# Altium schematic symbol library NH Speaker Sensor 16CH 2.3_C.SCHLIB: 91 symbols
Pins are listed as number, name and electrical type; pins without a type are passive.

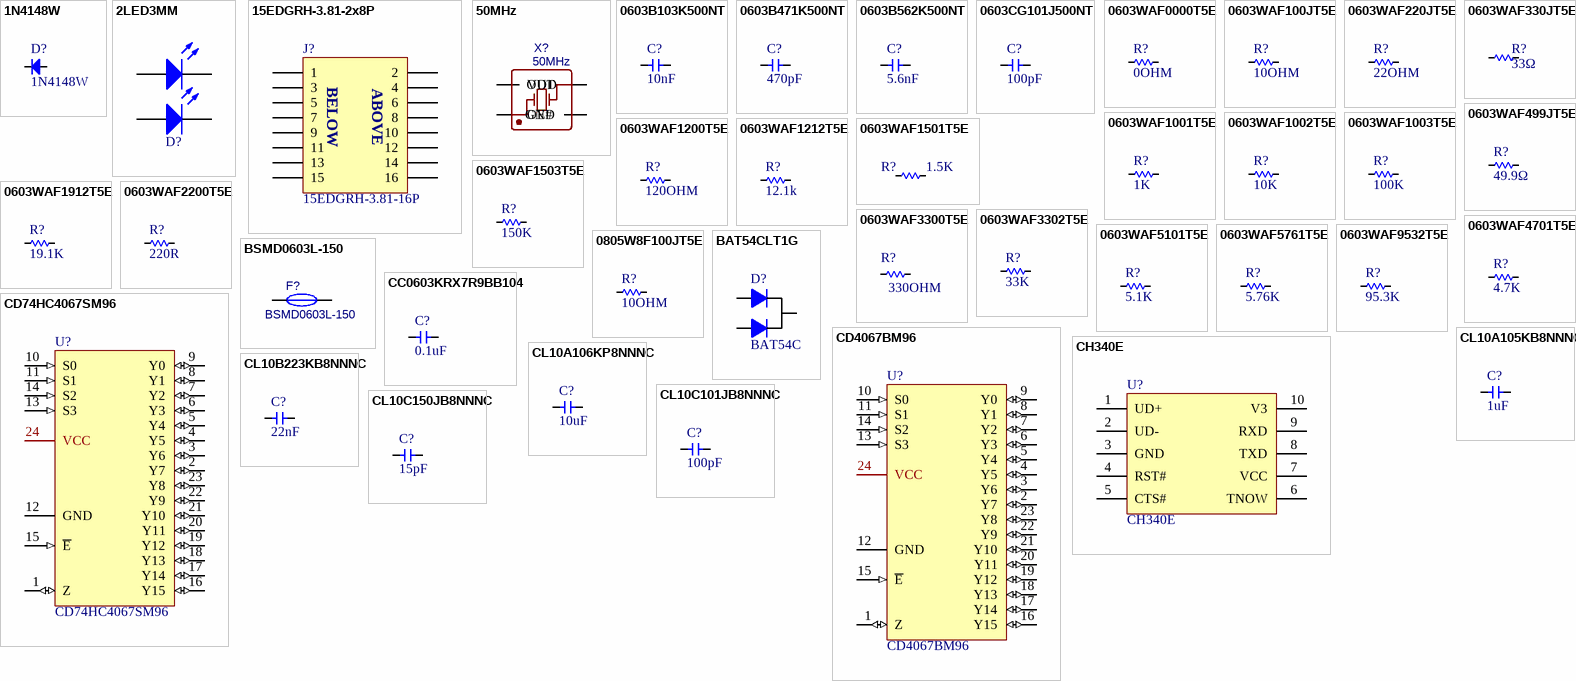
[diagram p0: symbols 1N4148W to CL10C150JB8NNNC]

## 1N4148W
designator D?
SCHOTTKY BARRIER DIODES (SBD) SOD-123 ROHS; Manufacturer: ST(Semtech); Manufacturer Part Number: 1N4148W; LCSC Part Number: C81598; Package: SOD-323; Assembly Type: SMT Assembly
footprint SOD-123F_L2.7-W1.6-LS3.8-RD
pins: 1 K, 2 A

## 2LED3MM
designator D?, comment 2LED_3MM  (value not drawn)
Typical RED GaAs LED; Manufacturer Part Number: 2 Led 3mm; Manufacturer: N/A; LCSC Part Number: N/A; Package: Through hole; Assembly Type: Hand Soldering
footprint 2LED_3MM
pins: 1 A, 2 K, 3 A, 4 K

## 15EDGRH-3.81-2x8P
designator J?, comment 15EDGRH-3.81-16P
16 Position Terminal Block Header, Male Pins, Shrouded (16 Side) 0.150" (3.81mm) 90°, Right Angle  Through Hole; Manufacturer: Phoenix Contact; Manufacturer Part Number: 1843130; Package: Through Hole; ComponentLink1URL: https://datasheet.ciiva.com/15197/getdatasheetpartid-704204-15197555.pdf?src-supplier=Verical; ComponentLink1Description: https://datasheet.ciiva.com/15197/getdatasheetpartid-704204-15197555.pdf?src-supplier=Verical; ComponentLink2URL: https://datasheet.ciiva.com/6762/1843088-6762520.pdf?src-supplier=Digi-Key; ComponentLink2Description: https://datasheet.ciiva.com/6762/1843088-6762520.pdf?src-supplier=Digi-Key; ComponentLink3URL: https://datasheet.ciiva.com/16097/1843088-16097099.pdf?src-supplier=Onlinecomponents.com; ComponentLink3Description: https://datasheet.ciiva.com/16097/1843088-16097099.pdf?src-supplier=Onlinecomponents.com; ComponentLink4URL: https://datasheet.ciiva.com/26339/772185-da-01-de-grundgehaeuse-1843088-50-st-26339092.pdf?src-supplier=Conrad; ComponentLink4Description: https://datasheet.ciiva.com/26339/772185-da-01-de-grundgehaeuse-1843088-50-st-26339092.pdf?src-supplier=Conrad; LCSC Part Number: N/A; Assembly Type: Hand Soldering
footprint Header 3.81 8 pin dual row
pins: 1, 2, 3, 4, 5, 6, 7, 8, 9, 10, 11, 12, 13, 14, 15, 16
text: BELOW; ABOVE

## 50MHz
designator X?
Manufacturer: HELE(台湾加高); Manufacturer Part: HSO321S 50MHZ 3.3V 50PPM -40~+85℃; nameAlias: Value; Contributor: LCSC; Supplier: LCSC; Supplier Part: C160451; JLCPCB Part Class: Extended Part; spicePre: X; spiceSymbolName: HSO321S 50MHZ 3.3V
footprint OSC-SMD_4P-L3.2-W2.5-BL
pins: 1 OE#, 2 GND, 3 OUT, 4 VDD

## 0603B103K500NT
designator C?, comment 10nF
10NF 50V 0603 ROHS; Manufacturer: FH(Guangdong Fenghua Advanced Tech); Manufacturer Part Number: 0603B103K500NT; Package: 0603; LCSC Part Number: C57112; ComponentLink1Description: Digikey Link; ComponentLink2Description: LCSC Link; Assembly Type: SMT Assembly
footprint C_0603
pins: 1, 2

## 0603B471K500NT
designator C?, comment 470pF
470pF 50V 0603 Multilayer Ceramic Capacitors MLCC - SMD/SMT ROHS; Manufacturer: FH(Guangdong Fenghua Advanced Tech); Manufacturer Part Number: 0603B471K500NT; Package: 0603; LCSC Part Number: C1620; ComponentLink1Description: Digikey Link; ComponentLink2Description: LCSC Link; ComponentLink2URL: https://jlcpcb.com/parts/componentSearch?searchTxt=10k%200603; Assembly Type: SMT Assembly
footprint C_0603
pins: 1, 2

## 0603B562K500NT
designator C?, comment 5.6nF
5.6nF 50V X7R ±10% 0603 Multilayer Ceramic Capacitors MLCC - SMD/SMT ROHS; Manufacturer: FH(Guangdong Fenghua Advanced Tech); Manufacturer Part Number: 0603B562K500NT; Package: 0603; LCSC Part Number: C1628; Assembly Type: SMT Assembly; ComponentLink1Description: Digikey Link
footprint C_0603
pins: 1, 2

## 0603CG101J500NT
designator C?, comment 100pF
100pF 50V C0G ±5% 0603 Multilayer Ceramic Capacitors MLCC - SMD/SMT ROHS; Manufacturer: FH(Guangdong Fenghua Advanced Tech); Manufacturer Part Number: 0603CG101J500NT; Package: 0603; LCSC Part Number: C1635; Assembly Type: SMT Assembly; ComponentLink1Description: Digikey Link; ComponentLink2Description: LCSC Link
footprint C_0603
pins: 1, 2

## 0603WAF0000T5E
designator R?, comment 0OHM
0OHMS ±1% 1/10W 0603 ROHS; Manufacturer: Uniroyal Elec; Manufacturer Part Number: 0603WAF0000T5E; LCSC Part Number: C21189; Package: 0603; Assembly Type: SMT Assembly
footprint R_0603
pins: 1, 2

## 0603WAF100JT5E
designator R?, comment 10OHM
10OHMS ±1% 1/10W 0603 ROHS; Manufacturer: Uniroyal Elec; Manufacturer Part Number: 0603WAF100JT5E; LCSC Part Number: C22859; Package: 0603; Assembly Type: SMT Assembly
footprint R_0603
pins: 1, 2

## 0603WAF220JT5E
designator R?, comment 22OHM
22OHMS ±1% 1/10W 0603 ROHS; Manufacturer: Uniroyal Elec; Manufacturer Part Number: 0603WAF220JT5E; LCSC Part Number: C23345; Package: 0603; Assembly Type: SMT Assembly
footprint R_0603
pins: 1, 2

## 0603WAF330JT5E
designator R?, comment 33Ω
33OHM ±1% 0.1W ±100ppm/℃ 0603 Chip Resistor - Surface Mount RoHS; Manufacturer: Uniroyal Elec; Manufacturer Part Number: 0603WAF330JT5E; LCSC Part Number: C23140; Package: 0603; Assembly Type: SMT Assembly
footprint R_0603
pins: 1, 2

## 0603WAF499JT5E
designator R?, comment 49.9Ω
49.9OHM ±1% ±1% 0.1W ±200ppm/℃ 0603 Chip Resistor - Surface Mount RoHS; Manufacturer: Uniroyal Elec; Manufacturer Part Number: 0603WAF499JT5E; LCSC Part Number: C23185; Package: 0603; Assembly Type: SMT Assembly
footprint R_0603
pins: 1, 2

## 0603WAF1001T5E
designator R?, comment 1K
1KOHMS ±1% 1/10W 0603 ROHS; Manufacturer: Uniroyal Elec; Manufacturer Part Number: 0603WAF1001T5E; LCSC Part Number: C21190; Package: 0603; Assembly Type: SMT Assembly
footprint R_0603
pins: 1, 2

## 0603WAF1002T5E
designator R?, comment 10K
10KOHMS ±1% 1/10W 0603 ROHS; Manufacturer: Uniroyal Elec; Manufacturer Part Number: 0603WAF1002T5E; LCSC Part Number: C25804; Package: 0603; Assembly Type: SMT Assembly
footprint R_0603
pins: 1, 2

## 0603WAF1003T5E
designator R?, comment 100K
100KOHMS ±1% 1/10W 0603 ROHS; Manufacturer: Uniroyal Elec; Manufacturer Part Number: 0603WAF1003T5E; LCSC Part Number: C25803; Package: 0603; Assembly Type: SMT Assembly
footprint R_0603
pins: 1, 2

## 0603WAF1200T5E
designator R?, comment 120OHM
120OHMS ±1% 1/10W 0603 ROHS; Manufacturer: Uniroyal Elec; Manufacturer Part Number: 0603WAF1200T5E; Package: 0603; LCSC Part Number: C22787; Assembly Type: SMT Assembly
footprint R_0603
pins: 1, 2

## 0603WAF1212T5E
designator R?, comment 12.1k
12.1kΩ ±1% 0.1W ±100ppm/℃ 0603 Chip Resistor - Surface Mount RoHS; Manufacturer: Uniroyal Elec; Manufacturer Part Number: 0603WAF1212T5E; LCSC Part Number: C22864; Package: 0603; Assembly Type: SMT Assembly
footprint R_0603
pins: 1, 2

## 0603WAF1501T5E
designator R?, comment 1.5K
1.5KOHMS ±1% 1/10W 0603 ROHS; Manufacturer: Uniroyal Elec; Manufacturer Part Number: 0603WAF1501T5E; ComponentLink1URL: https://datasheet.ciiva.com/8883/pyu-rc0603-51-rohs-l-4-8883051.pdf?src-supplier=Avnet; ComponentLink1Description: https://datasheet.ciiva.com/8883/pyu-rc0603-51-rohs-l-4-8883051.pdf?src-supplier=Avnet; ComponentLink2URL: https://datasheet.ciiva.com/7746/443971-7746461.pdf?src-supplier=Element14; ComponentLink2Description: https://datasheet.ciiva.com/7746/443971-7746461.pdf?src-supplier=Element14; ComponentLink3URL: https://datasheet.ciiva.com/22747/443971-22747533.pdf?src-supplier=Element14; ComponentLink3Description: https://datasheet.ciiva.com/22747/443971-22747533.pdf?src-supplier=Element14; ComponentLink4URL: https://datasheet.ciiva.com/7746/443971-7746462.pdf?src-supplier=Element14; ComponentLink4Description: https://datasheet.ciiva.com/7746/443971-7746462.pdf?src-supplier=Element14; LCSC Part Number: C22843; Package: 0603; Assembly Type: SMT Assembly
footprint R_0603
pins: 1, 2

## 0603WAF1503T5E
designator R?, comment 150K
150kΩ ±1% ±100ppm/℃ 0.1W 0603 Chip Resistor - Surface Mount ROHS; Manufacturer: Uniroyal Elec; Manufacturer Part Number: 0603WAF1503T5E; LCSC Part Number: C22807; Package: 0603; Assembly Type: SMT Assembly
footprint R_0603
pins: 1, 2

## 0603WAF1912T5E
designator R?, comment 19.1K
19.1kΩ 0603 1/10W Thick Film Resistors 75V ±1% ±100ppm/℃ -55℃~+155℃ Chip Resistor - Surface Mount ROHS; Manufacturer: Uniroyal Elec; Manufacturer Part Number: 0603WAF1912T5E; LCSC Part Number: C22897; Package: 0603; Assembly Type: SMT Assembly
footprint R_0603
pins: 1, 2

## 0603WAF2200T5E
designator R?, comment 220R
220R 22OHMS ±1% 1/10W 0603 ROHS; Manufacturer: Uniroyal Elec; Manufacturer Part Number: 0603WAF2200T5E; LCSC Part Number: C22962; Package: 0603; Assembly Type: SMT Assembly
footprint R_0603
pins: 1, 2

## 0603WAF3300T5E
designator R?, comment 330OHM
330OHMS ±1% 1/10W 0603 ROHS; Manufacturer: Uniroyal Elec; Manufacturer Part Number: 0603WAF3300T5E; LCSC Part Number: C23138; Package: 0603; Assembly Type: SMT Assembly
footprint R_0603
pins: 1, 2

## 0603WAF3302T5E
designator R?, comment 33K
33KOHMS ±1% 1/10W 0603 ROHS; Manufacturer: Uniroyal Elec; Manufacturer Part Number: 0603WAF3302T5E; ComponentLink1URL: https://datasheet.ciiva.com/8883/pyu-rc0603-51-rohs-l-4-8883051.pdf?src-supplier=Avnet; ComponentLink1Description: https://datasheet.ciiva.com/8883/pyu-rc0603-51-rohs-l-4-8883051.pdf?src-supplier=Avnet; ComponentLink2URL: https://datasheet.ciiva.com/7746/443971-7746461.pdf?src-supplier=Element14; ComponentLink2Description: https://datasheet.ciiva.com/7746/443971-7746461.pdf?src-supplier=Element14; ComponentLink3URL: https://datasheet.ciiva.com/22747/443971-22747533.pdf?src-supplier=Element14; ComponentLink3Description: https://datasheet.ciiva.com/22747/443971-22747533.pdf?src-supplier=Element14; ComponentLink4URL: https://datasheet.ciiva.com/7746/443971-7746462.pdf?src-supplier=Element14; ComponentLink4Description: https://datasheet.ciiva.com/7746/443971-7746462.pdf?src-supplier=Element14; LCSC Part Number: C4216; Package: 0603; Assembly Type: SMT Assembly
footprint R_0603
pins: 1, 2

## 0603WAF4701T5E
designator R?, comment 4.7K
4.7KOHMS ±1% 1/10W 0603 ROHS; Manufacturer: Uniroyal Elec; Manufacturer Part Number: 0603WAF4701T5E; LCSC Part Number: C23162; Package: 0603; Assembly Type: SMT Assembly
footprint R_0603
pins: 1, 2

## 0603WAF5101T5E
designator R?, comment 5.1K
5.1K 5.1kΩ 0603 1/10W Thick Film Resistors 75V ±1% ±100ppm/℃ -55℃~+155℃ Chip Resistor - Surface Mount ROHS; Manufacturer: Uniroyal Elec; Manufacturer Part Number: 0603WAF5101T5E; LCSC Part Number: C23186; Package: 0603; Assembly Type: SMT Assembly
footprint R_0603
pins: 1, 2

## 0603WAF5761T5E
designator R?, comment 5.76K
5.76kΩ 0603 1/10W Thick Film Resistors 75V ±1% ±100ppm/℃ -55℃~+155℃ Chip Resistor - Surface Mount ROHS; Manufacturer: Uniroyal Elec; Manufacturer Part Number: 0603WAF5761T5E; LCSC Part Number: C23070; Package: 0603; Assembly Type: SMT Assembly
footprint R_0603
pins: 1, 2

## 0603WAF9532T5E
designator R?, comment 95.3K
95.3kΩ 0603 1/10W Thick Film Resistors 75V ±1% ±100ppm/℃ -55℃~+155℃ Chip Resistor - Surface Mount ROHS; Manufacturer: Uniroyal Elec; Manufacturer Part Number: 0603WAF9532T5E; LCSC Part Number: C23267; Package: 0603; Assembly Type: SMT Assembly
footprint R_0603
pins: 1, 2

## 0805W8F100JT5E
designator R?, comment 10OHM
10OHMS ±1% 1/8W 0805 ROHS; Manufacturer: Uniroyal Elec; Manufacturer Part Number: 0805W8F100JT5E; LCSC Part Number: C17415; Package: 0805; Assembly Type: SMT Assembly
footprint R_0805
pins: 1, 2

## BAT54CLT1G
designator D?, comment BAT54C
SCHOTTKY BARRIER DIODES (SBD) SOT-23(SOT-23-3) ROHS; Manufacturer: ON Semicon; Manufacturer Part Number: BAT54CLT1G; LCSC Part Number: C14308; Package: SOT-23-3; Assembly Type: SMT Assembly
footprint SOT-23-3_L2.9-W1.6-P1.90-LS2.8-BR
pins: 1 A, 2 A, 3 K

## BSMD0603L-150
designator F?
6V 1.5A 50A 1W -40℃~+85℃ 3A 5mΩ 500ms 55mΩ 0603; Manufacturer: BHFUSE; LCSC Part Number: C914094; Manufacturer Part Number: BSMD0603L-150; Package: 0603; Assembly Type: SMT Assembly
footprint F0603
pins: 1, 2

## CC0603KRX7R9BB104
designator C?, comment 0.1uF
100NF 50V 0603 ROHS; Manufacturer: YAGEO; Manufacturer Part Number: CC0603KRX7R9BB104; Package: 0603; LCSC Part Number: C14663; ComponentLink1Description: Digikey Link; ComponentLink1URL: https://www.digikey.com/en/products/detail/yageo/CC0603KRX7R9BB104/2103082?s=N4IgTCBcDaIMwEYEFoFwCzuWZA5AIiALoC%2BQA; ComponentLink2Description: LCSC Link; ComponentLink2URL: https://jlcpcb.com/parts/componentSearch?searchTxt=10k%200603; Assembly type: SMT Assembly
footprint C_0603
pins: 1, 2

## CD74HC4067SM96
designator U?
74HC4067 SSOP-24_208mil Analog Switches & Multiplexers ROHS; Manufacturer: Texas Instruments; Manufacturer Part Number: CD74HC4067SM96; Package: SSOP-24_5.3x8.2x0.65P; LCSC Part Number: C98457; Assembly Type: SMT Assembly
footprint SSOP-24_L8.1-W5.3-P0.65-LS7.8-BL
pins: 1 Z (io), 2 Y7 (io), 3 Y6 (io), 4 Y5 (io), 5 Y4 (io), 6 Y3 (io), 7 Y2 (io), 8 Y1 (io), 9 Y0 (io), 10 S0 (in), 11 S1 (in), 12 GND (power), 13 S3 (in), 14 S2 (in), 15 ~{E} (in), 16 Y15 (io), 17 Y14 (io), 18 Y13 (io), 19 Y12 (io), 20 Y11 (io), 21 Y10 (io), 22 Y9 (io), 23 Y8 (io), 24 VCC (power)

## CD4067BM96
designator U?
CD4067BM96 1 240Ω SOP-24-300mil  Analog Switches / Multiplexers ROHS; Manufacturer: Texas Instruments; Manufacturer Part Number: CD4067BM96; Package: SOIC-24-300mil; LCSC Part Number: C6525; Assembly Type: SMT Assembly
footprint SOIC-24_L15.4-W7.5-P1.27-LS10.3-BL
pins: 1 Z (io), 2 Y7 (io), 3 Y6 (io), 4 Y5 (io), 5 Y4 (io), 6 Y3 (io), 7 Y2 (io), 8 Y1 (io), 9 Y0 (io), 10 S0 (in), 11 S1 (in), 12 GND (power), 13 S3 (in), 14 S2 (in), 15 ~{E} (in), 16 Y15 (io), 17 Y14 (io), 18 Y13 (io), 19 Y12 (io), 20 Y11 (io), 21 Y10 (io), 22 Y9 (io), 23 Y8 (io), 24 VCC (power)

## CH340E
designator U?
Transceiver USB 2.0 2Mbps MSOP-10 USB ICs RoHS; Manufacturer: WCH(Jiangsu Qin Heng); Manufacturer Part: CH340E; LCSC Part: C99652; Package: MSOP-10; Assembly Type: SMT Assembly
footprint MSOP-10_L3.0-W3.0-P0.50-LS5.0-BL
pins: 1 UD+, 2 UD-, 3 GND, 4 RST#, 5 CTS#, 6 TNOW, 7 VCC, 8 TXD, 9 RXD, 10 V3

## CL10A105KB8NNNC
designator C?, comment 1uF
1UF 50V 0603 ROHS; Manufacturer: Samsung Electro-Mechanics; Manufacturer Part Number: CL10A105KB8NNNC; Package: 0603; LCSC Part Number: C15849; ComponentLink1Description: Digikey Link; ComponentLink1URL: https://www.digikey.com/en/products/detail/samsung-electro-mechanics/CL10A105KB8NNNC/3887518?s=N4IgTCBcDaIMIBkCMAGAgqgrAaQEIA4A5YuEAXQF8g; ComponentLink2Description: LCSC Link; ComponentLink2URL: https://jlcpcb.com/parts/componentSearch?searchTxt=10k%200603; Assembly Type: SMT Assembly
footprint C_0603
pins: 1, 2

## CL10A106KP8NNNC
designator C?, comment 10uF
10uF 10V 0603 Multilayer Ceramic Capacitors MLCC - SMD/SMT ROHS; Manufacturer: Samsung Electro-Mechanics; Manufacturer Part Number: CL10A106KP8NNNC; Package: 0603; LCSC Part Number: C19702; ComponentLink1Description: Digikey Link; ComponentLink1URL: https://www.digikey.com/en/products/detail/samsung-electro-mechanics/CL10A105KB8NNNC/3887518?s=N4IgTCBcDaIMIBkCMAGAgqgrAaQEIA4A5YuEAXQF8g; ComponentLink2Description: LCSC Link; ComponentLink2URL: https://jlcpcb.com/parts/componentSearch?searchTxt=10k%200603; Assembly Type: SMT Assembly
footprint C_0603
pins: 1, 2

## CL10B223KB8NNNC
designator C?, comment 22nF
22nF 50V 0603 Multilayer Ceramic Capacitors MLCC - SMD/SMT ROHS; Manufacturer: Samsung Electro-Mechanics; Manufacturer Part Number: CL10B223KB8NNNC; Package: 0603; LCSC Part Number: C21122; ComponentLink1Description: Digikey Link; ComponentLink2Description: LCSC Link; ComponentLink2URL: https://jlcpcb.com/parts/componentSearch?searchTxt=10k%200603; Assembly Type: SMT Assembly
footprint C_0603
pins: 1, 2

## CL10C101JB8NNNC
designator C?, comment 100pF
100pF ±5% 50V C0G 0603 Multilayer Ceramic Capacitors MLCC - SMD/SMT RoHS; Manufacturer: Samsung Electro-Mechanics; Manufacturer Part Number: CL10C101JB8NNNC; Package: 0603; LCSC Part Number: C14858; ComponentLink1Description: Digikey Link; Assembly Type: SMT Assembly
footprint C_0603
pins: 1, 2

## CL10C150JB8NNNC
designator C?, comment 15pF
15pF ±5% 50V C0G 0603 Multilayer Ceramic Capacitors MLCC - SMD/SMT RoHS; Manufacturer: Samsung Electro-Mechanics; Manufacturer Part Number: CL10C150JB8NNNC; Package: 0603; LCSC Part Number: C1644; ComponentLink1Description: Digikey Link; Assembly Type: SMT Assembly
footprint C_0603
pins: 1, 2

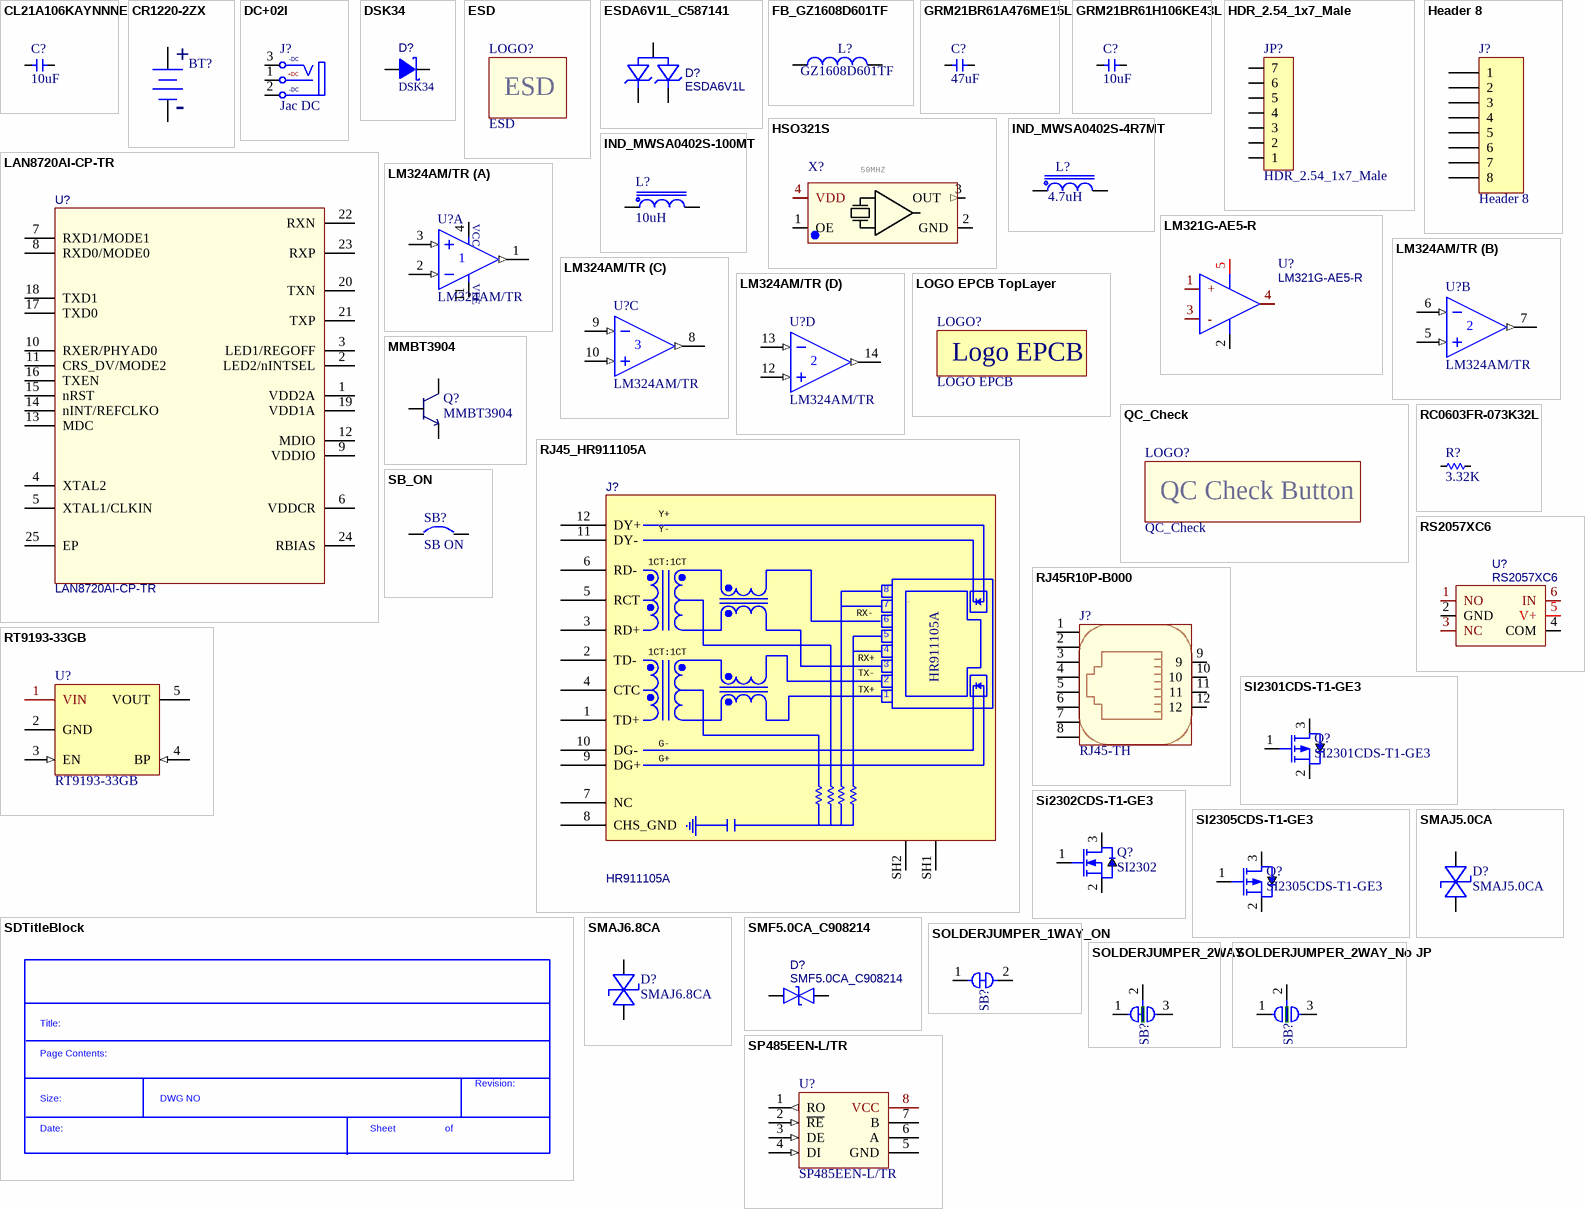
[diagram p1: symbols CL21A106KAYNNNE to SP485EEN-L/TR]

## CL21A106KAYNNNE
designator C?, comment 10uF
10UF 25V 0805 ROHS; Manufacturer: Samsung Electro-Mechanics; Manufacturer Part Number: CL21A106KAYNNNE; ComponentLink1URL: https://lcsc.com/product-detail/Multilayer-Ceramic-Capacitors-MLCC-SMD-SMT_SAMSUNG_CL21A106KAYNNNE_10uF-106-10-25V_C15850.html/?href=jlc-SMT; ComponentLink1Description: LCSC Link; LCSC Part Number: C15850; Package: 0805; Assembly Type: SMT Assembly
footprint C_0805
pins: 1, 2

## CR1220-2ZX
designator BT?  (value not drawn)
SMD Battery Holders, Clips & Contacts RoHS 1220 batteries; Manufacturer: Q&J; ComponentLink1URL: https://datasheet.ciiva.com/16220/m60-2p2-16220480.pdf?src-supplier=Future+Electronics; ComponentLink1Description: https://datasheet.ciiva.com/16220/m60-2p2-16220480.pdf?src-supplier=Future+Electronics; ComponentLink2URL: https://datasheet.ciiva.com/18491/1056-18491289.pdf?src-supplier=Digi-Key; ComponentLink2Description: https://datasheet.ciiva.com/18491/1056-18491289.pdf?src-supplier=Digi-Key; ComponentLink3URL: https://datasheet.ciiva.com/26923/getdatasheetpartid-755844-26923850.pdf?src-supplier=Verical; ComponentLink3Description: https://datasheet.ciiva.com/26923/getdatasheetpartid-755844-26923850.pdf?src-supplier=Verical; Manufacturer Part Number: CR1220-2ZX; LCSC Part Number: C969906; Package: SMD; Assembly Type: SMT Assembly
footprint BAT_CR1220_SMD
pins: 1 +, 2 -

## DC+02I
designator J?, comment Jac DC
Jac DC input 5.5x2.1MM; Manufacturer Part Number: DC+02I; Manufacturer: JINJIA; LCSC Part Number: C718033; Package: Through Hole; Assembly Type: Hand Soldering
footprint DC0 (Jac DC input)
pins: 1 S (power) "Sleeve (Ground)", 2 T "Tip", 3 TN "Tip Normal (Break Contact)"
text: -DC; +DC

## DSK34
designator D?
DSK34 40V 550mV@3A 3A SOD-123 Schottky Barrier Diodes (SBD) ROHS Copy; Manufacturer: MDD（Microdiode Electronics); Package: SOD-123; Manufacturer Part Number: DSK34; LCSC Part Number: C41029; Assembly Type: SMT Assembly
footprint SOD-123_L2.8-W1.8-LS3.7-RD
pins: 1 A, 2 K

## ESD
designator LOGO?  (no BOM)
lOGO ESD
footprint LOGO ESD
footprint LOGO ESD

## ESDA6V1L_C587141
designator D?, comment ESDA6V1L
ESDA6V1L SOT-23-3  ESD Protection Devices ROHS; Manufacturer: TECH PUBLIC(台舟); LCSC Part Number: C587141; Manufacturer Part Number: ESDA6V1L; Package: SOT-23-3; Assembly Type: SMT Assembly
footprint SOT-23-3_L2.9-W1.3-P1.90-LS2.4-BR
pins: 1 C, 2 C, 3 A

## FB_GZ1608D601TF
designator L?, comment GZ1608D601TF
600Ω @ 100MHz 1 200mA 450mΩ 0603 Ferrite Beads ROHS; Manufacturer: Sunlord; Manufacturer Part Number: GZ1608D601TF; LCSC Part Number: C1002; Package: 0603; Assembly Type: SMT Assembly
footprint L_0603
pins: 1, 2

## GRM21BR61A476ME15L
designator C?, comment 47uF
47uF ±20% 10V X5R 0805 Multilayer Ceramic Capacitors MLCC - SMD/SMT RoHS; Manufacturer: Murata Electronics; Manufacturer Part Number: GRM21BR61A476ME15L; ComponentLink1URL: https://lcsc.com/product-detail/Multilayer-Ceramic-Capacitors-MLCC-SMD-SMT_SAMSUNG_CL21A106KAYNNNE_10uF-106-10-25V_C15850.html/?href=jlc-SMT; ComponentLink1Description: LCSC Link; LCSC Part Number: C124129; Package: 0805; Assembly Type: SMT Assembly
footprint C_0805
pins: 1, 2

## GRM21BR61H106KE43L
designator C?, comment 10uF
10uF ±10% 50V X5R 0805; Manufacturer: Murata Electronics; Manufacturer Part Number: GRM21BR61H106KE43L; ComponentLink1URL: https://lcsc.com/product-detail/Multilayer-Ceramic-Capacitors-MLCC-SMD-SMT_SAMSUNG_CL21A106KAYNNNE_10uF-106-10-25V_C15850.html/?href=jlc-SMT; ComponentLink1Description: LCSC Link; LCSC Part Number: C440198; Package: 0805; Assembly Type: SMT Assembly
footprint C_0805
pins: 1, 2

## HDR_2.54_1x7_Male
designator JP?
CONN HEADER VERT 36000POS 2.54MM 1x7PIN; Manufacturer: China; Manufacturer Part Number: HDR_2.54_1x7_Male; LCSC Part Number: N/A; Assembly Type: Hand Soldering; Package: P=2.54
footprint HDR1X7 (Connector; Header; 8 Position)
pins: 1, 2, 3, 4, 5, 6, 7

## Header 8
designator J?
Header 8 Pitch 2.54mm; Manufacturer Part Number: HDR 1x8; Manufacturer: N/A; Package: Through hole 2.54; LCSC Part Number: N/A; Assembly Type: Hand Soldering
footprint HDR1X8 (Connector; Header; 8 Position)
pins: 1, 2, 3, 4, 5, 6, 7, 8

## HSO321S
designator X?, comment 50MHZ
HSO321S 50MHZ 3.3V 50PPM -40~+85℃; Manufacturer: HELE(Harmony Elec); Package: SMD-3225_4P; Manufacturer Part Number: HSO321S 50MHZ 3.3V 50PPM -40~+85℃; LCSC Part Number: C160451; Assembly Type: SMT Assembly
footprint SMD-3225_4P
pins: 1 OE, 2 GND (power), 3 OUT (out), 4 VDD (power)

## IND_MWSA0402S-4R7MT
designator L?, comment 4.7uH
4.7uH IND 4.2x4.4x2.0mm 2.8A 4.7uH ±20% 105mΩ SMD Power Inductors ROHS; Manufacturer: Sunlord; Manufacturer Part Number: MWSA0402S-4R7MT; LCSC Part Number: C408337; Package: SMD-4.2x4.4x2.0; Assembly Type: SMT Assembly
footprint IND-SMD_L4.4-W4.2
pins: 1, 2

## IND_MWSA0402S-100MT
designator L?, comment 10uH
POWER INDUCTORS SMD,4.2X4.4X2.0MM ROHS; Manufacturer: Sunlord; Manufacturer Part Number: MWSA0402S-100MT; ComponentLink1URL: http://www.mouser.com/ds/2/390/CDRH5D28RHP-523509.pdf?src-supplier=Mouser; ComponentLink1Description: http://www.mouser.com/ds/2/390/CDRH5D28RHP-523509.pdf?src-supplier=Mouser; ComponentLink2URL: http://products.sumida.com/products/pdf/CDRH5D28RHP.pdf?src-supplier=Digi-Key; ComponentLink2Description: http://products.sumida.com/products/pdf/CDRH5D28RHP.pdf?src-supplier=Digi-Key; ComponentLink3URL: http://www.sumida.com/products/pdf/CDRH5D28,5D28R,5D28RHP.pdf?src-supplier=Avnet; ComponentLink3Description: http://www.sumida.com/products/pdf/CDRH5D28,5D28R,5D28RHP.pdf?src-supplier=Avnet; ComponentLink4URL: http://datasheet.octopart.com/CDRH5D28RHPNP-4R7NC-Sumida-datasheet-8324507.pdf?src-supplier=_legacy+Avnet; ComponentLink4Description: http://datasheet.octopart.com/CDRH5D28RHPNP-4R7NC-Sumida-datasheet-8324507.pdf?src-supplier=_legacy+Avnet; LCSC Part Number: C408339; Package: SMD-4.2x4.4x2.0; Assembly Type: SMT Assembly
footprint IND-SMD_L4.4-W4.2
pins: 1, 2

## LAN8720AI-CP-TR
designator U?
Ethernet Transceivers 10/100 Base-T/TX PHY RMII 1.6V ~ 3.6V QFN-24_4x4x05P Ethernet ICs RoHS; Manufacturer: SMSC; Manufacturer Part Number: LAN8720AI-CP-TR; LCSC Part Number: C17146; Package: QFN-24_4x4x05P; Assembly Type: SMT Assembly
footprint QFN-24_L4.0-W4.0-P0.50-BL-EP2.6
pins: 1 VDD2A, 2 LED2/nINTSEL, 3 LED1/REGOFF, 4 XTAL2, 5 XTAL1/CLKIN, 6 VDDCR, 7 RXD1/MODE1, 8 RXD0/MODE0, 9 VDDIO, 10 RXER/PHYAD0, 11 CRS_DV/MODE2, 12 MDIO, 13 MDC, 14 nINT/REFCLKO, 15 nRST, 16 TXEN, 17 TXD0, 18 TXD1, 19 VDD1A, 20 TXN, 21 TXP, 22 RXN, 23 RXP, 24 RBIAS, 25 EP

## LM321G-AE5-R
designator U?
1MHz 1 General Purpose - 0.4 V/us 3V ~ 32V SOT-23-5 General Purpose Amplifiers ROHS; Manufacturer: UTC; Manufacturer Part Number: LM321G-AE5-R; LCSC Part Number: C100068; Package: SOT-23-5; Assembly Type: SMT Assembly
footprint SOT-23-5_L3.0-W1.7-P0.95-LS2.8-BR
pins: 1 +, 2 GND (power), 3 -, 4 OUT, 5 VCC+

## LM324AM/TR
designator U?
LM324AM/NOPB GENERAL PURPOSE AMPLIFIERS SOIC-14 ROHS; Manufacturer: HGSEMI; Manufacturer Part Number: LM324AM/TR; Package: SOIC-14_3.9x8.7x1.27P; LCSC Part Number: C2688471; Assembly Type: SMT Assembly
footprint SOIC-14_3.9x8.7x1.27P
part A pins: 1 OUT (out), 2 IN- (in), 3 IN+ (in), 4 V+ (power), 11 V- (power)
part B pins: 5 IN+ (in), 6 IN- (in), 7 OUT (out)
part C pins: 8 OUT (out), 9 IN- (in), 10 IN+ (in)
part D pins: 12 IN+ (in), 13 IN- (in), 14 OUT (out)
part A text: VCC; VEE

## LOGO EPCB TopLayer
designator LOGO?, comment LOGO EPCB  (no BOM)
footprint LOGO EPCB TopLayer
text: Logo EPCB

## MMBT3904
designator Q?
MMBT3904 TRANSISTORS (NPN/PNP) NPN 200MA 40V SOT-23(SOT-23-3) ROHS; Manufacturer: Changjiang Electronics Tech (CJ); Manufacturer Part Number: MMBT3904; LCSC Part Number: C20526; Package: SOT-23-3; Assembly Type: SMT Assembly
footprint SOT-23-3_L2.9-W1.3-P1.90-LS2.4-BR
pins: 1 (power), 2 (power), 3 (power)

## QC_Check
designator LOGO?  (no BOM)
footprint QC_CHECK
text: QC Check Button

## RC0603FR-073K32L
designator R?, comment 3.32K
3.32K  ±1% 1/10W 0603 ROHS; Manufacturer: Uniroyal Elec; Manufacturer Part Number: RC0603FR-073K32L; LCSC Part Number: C137731; Package: 0603; Assembly Type: SMT Assembly
footprint R_0603
pins: 1, 2

## RJ45_HR911105A
designator J?, comment HR911105A
RJ45 12 1 Green - Yellow Through Hole Ethernet Connectors/Modular Connectors (RJ45 RJ11) RoHS; Manufacturer: HANRUN; Manufacturer Part Number: HR911105A; LCSC Part Number: C12074; Package: Through Hole; Assembly Type: Hand Soldering
footprint RJ45-TH_HR911105A
pins: 1 TD+, 2 TD-, 3 RD+, 4 CTC, 5 RCT, 6 RD-, 7 NC, 8 CHS_GND (power), 9 DG+, 10 DG-, 11 DY-, 12 DY+, SH1, SH2
text: Y+; Y-; 1CT:1CT; RX-; RX+; TX-; TX+; G-; G+

## RJ45R10P-B000
designator J?, comment RJ45-TH
RJ45 18MM, No Transformer; Manufacturer: Ckmtw(Shenzhen Cankemeng); Manufacturer Part Number: R-RJ45R10P-B000; LCSC Part Number: C386758; Package: Through hole; Assembly Type: Hand Soldering
footprint RJ45-TH_R-RJ45R10P-B000
pins: 1, 2, 3, 4, 5, 6, 7, 8, 9, 10, 11, 12

## RS2057XC6
designator U?
8Ω 1 SPDT(SPDT) SC-70-6  Analog Switches / Multiplexers ROHS; Manufacturer: RUNIC(润石); LCSC Part Number: C237027; Manufacturing Part Number: RS2057XC6; Package: SC-70-6; Assembly Type: C237027
footprint SC-70-6_L2.2-W1.3-P0.65-LS2.2-BL
pins: 1 NO, 2 GND, 3 NC, 4 COM, 5 V+, 6 IN

## RT9193-33GB
designator U?
5.5V 300mV @ 300mA - - Fixed 3.3V SOT-23-5 Linear Voltage Regulators (LDO) ROHS; Manufacturer: Richtek Tech; Manufacturer Part Number: RT9193-33GB; Package: SOT-23-5; LCSC Part Number: C15651; Assembly Type: SMT Assembly
footprint SOT-23-5_L3.0-W1.7-P0.95-LS2.8-BR
pins: 1 VIN (power), 2 GND (power), 3 EN (in), 4 BP (in), 5 VOUT (power)

## SB_ON
designator SB?, comment SB ON  (no BOM)
Solder Bridge ON; Solder: YES; Revision: July-2002: Re-released for DXP Platform.; ECCN_US/EU: n/a
footprint JP2_SMD - ON
pins: 1, 2

## SDTitleBlock
designator *??  (value not drawn)  (graphical)
TitleBlock
text: Title:; Page Contents:; Revision:; Size:; DWG NO; Date:; Sheet; of

## SI2301CDS-T1-GE3
designator Q?
P Channel SOT-23(SOT-23-3) MOSFETs ROHS 20V 3.1A 860mW 112mΩ@4.5V,2.8A 1V@250μA; Manufacturer: Vishay Intertech; Manufacturer Part Number: SI2301CDS-T1-GE3; LCSC Part Number: C10487; Package: SOT-23-3; Assembly Type: SMT Assembly
footprint SOT-23-3_L2.9-W1.6-P1.90-LS2.8-BR
pins: 1 G, 2 S, 3 D

## Si2302CDS-T1-GE3
designator Q?, comment SI2302
MOSFET N TRENCH 20V 2.9A 850MV @ 250UA 57 M? @ 3.6A,4.5V SOT-23(SOT-23-3) ROHS; Manufacturer: Vishay Intertech; Manufacturer Part Number: Si2302CDS-T1-GE3; LCSC Part Number: C10488; Package: SOT-23-3; Assembly Type: SMT Assembly
footprint SOT-23-3_L2.9-W1.6-P1.90-LS2.8-BR
pins: 1 G, 2 S, 3 D

## SI2305CDS-T1-GE3
designator Q?
SI2305CDS-T1-GE3 8V 5.8A 35mΩ@4.5V,4.4A P Channel SOT-23  MOSFETs ROHS; Manufacturer: Vishay Intertech; Manufacturer Part Number: SI2305CDS-T1-GE3; LCSC Part Number: C37577; Package: SOT-23-3; Assembly Type: SMT Assembly
footprint SOT-23-3_L2.9-W1.6-P1.90-LS2.8-BR
pins: 1 G, 2 S, 3 D

## SMAJ5.0CA
designator D?
SMAJ5.0CA 43.5A 9.2V 6.4V 5V Bi-Directional SMA(DO-214AC) TVS ROHS; Manufacturer: Bourne Semicon (Shenzhen); LCSC Part Number: C151931; Manufacturer Part Number: SMAJ5.0CA; Package: SMA,DO-214AC; Assembly Type: SMT Assembly
footprint SMA,DO-214AC - CA
pins: 1 A, 2 K

## SMAJ6.8CA
designator D?
Bidirectional 6.8V SMA(DO-214AC) TVS RoHS; Manufacturer: Bourne Semicon (Shenzhen); Manufacturer Part Number: SMAJ6.8CA; LCSC Part Number: C406209; Package: SMA,DO-214AC; Assembly Type: SMT Assembly
footprint SMA,DO-214AC - CA
pins: 1 A, 2 K

## SMF5.0CA_C908214
designator D?
SMF5.0CA 9.2V 6.4V 5V SOD-123  TVS ROHS; Manufacturer: FUXINSEMI(富芯森美); LCSC Part Number: C908214; Manufacturer Part Number: SMF5.0CA; Package: SOD-123; Assembly Type: SMT Assembly
footprint SOD-123_L2.8-W1.8-LS3.7-BI
pins: 1, 2

## SOLDERJUMPER_1WAY_ON
designator SB?  (value not drawn)  (no BOM)
GateName_1: G$1; SymbolName_1: SOLDERJUMPER_1WAY; LibraryName: microbuilder; DeviceSetName: SOLDERJUMPER_1WAY
footprint SOLDERJUMPER_1WAY_ON
pins: 1, 2

## SOLDERJUMPER_2WAY
designator SB?  (value not drawn)  (no BOM)
2-Way Solder Jumper; GateName_1: G$1; SymbolName_1: SOLDERJUMPER_2WAY; LibraryName: microbuilder; DeviceSetName: SOLDERJUMPER_2WAY
footprint SOLDERJUMPER_2WAY
pins: 1, 2, 3

## SOLDERJUMPER_2WAY_No JP
designator SB?  (value not drawn)  (no BOM)
GateName_1: G$1; SymbolName_1: SOLDERJUMPER_2WAY_No JP; LibraryName: microbuilder; DeviceSetName: SOLDERJUMPER_2WAY_No JP
footprint SOLDERJUMPER_2WAY - No JP
pins: 1, 2, 3

## SP485EEN-L/TR
designator U?
RS-485 & RS-422 1/1 1MBPS 3.15V ~ 5.5V SOIC-8_150MIL ROHS; Manufacturer: MaxLinear; ComponentLink1URL: http://www.ti.com/lit/ds/symlink/sn65hvd1785.pdf?src-supplier=Digi-Key; ComponentLink1Description: http://www.ti.com/lit/ds/symlink/sn65hvd1785.pdf?src-supplier=Digi-Key; ComponentLink2URL: http://datasheet.iiic.cc/texas_instruments/SN65HVD1785DR.pdf?src-supplier=IIIC; ComponentLink2Description: http://datasheet.iiic.cc/texas_instruments/SN65HVD1785DR.pdf?src-supplier=IIIC; Manufacturer Part Number: SP485EEN-L/TR; LCSC Part Number: C6855; Package: SOIC-8_3.9x4.9x1.27P; Assembly Type: SMT Assembly
footprint SOIC-8_3.9x4.9x1.27P
pins: 1 RO (out) "Receiver Output", 2 ~{RE} (in) "Receiver Enable Output", 3 DE (in) "Driver Enable Output", 4 DI (in) "Driver Input", 5 GND (power), 6 A "RI & NoneDO", 7 B "NoneDI", 8 VCC (power)

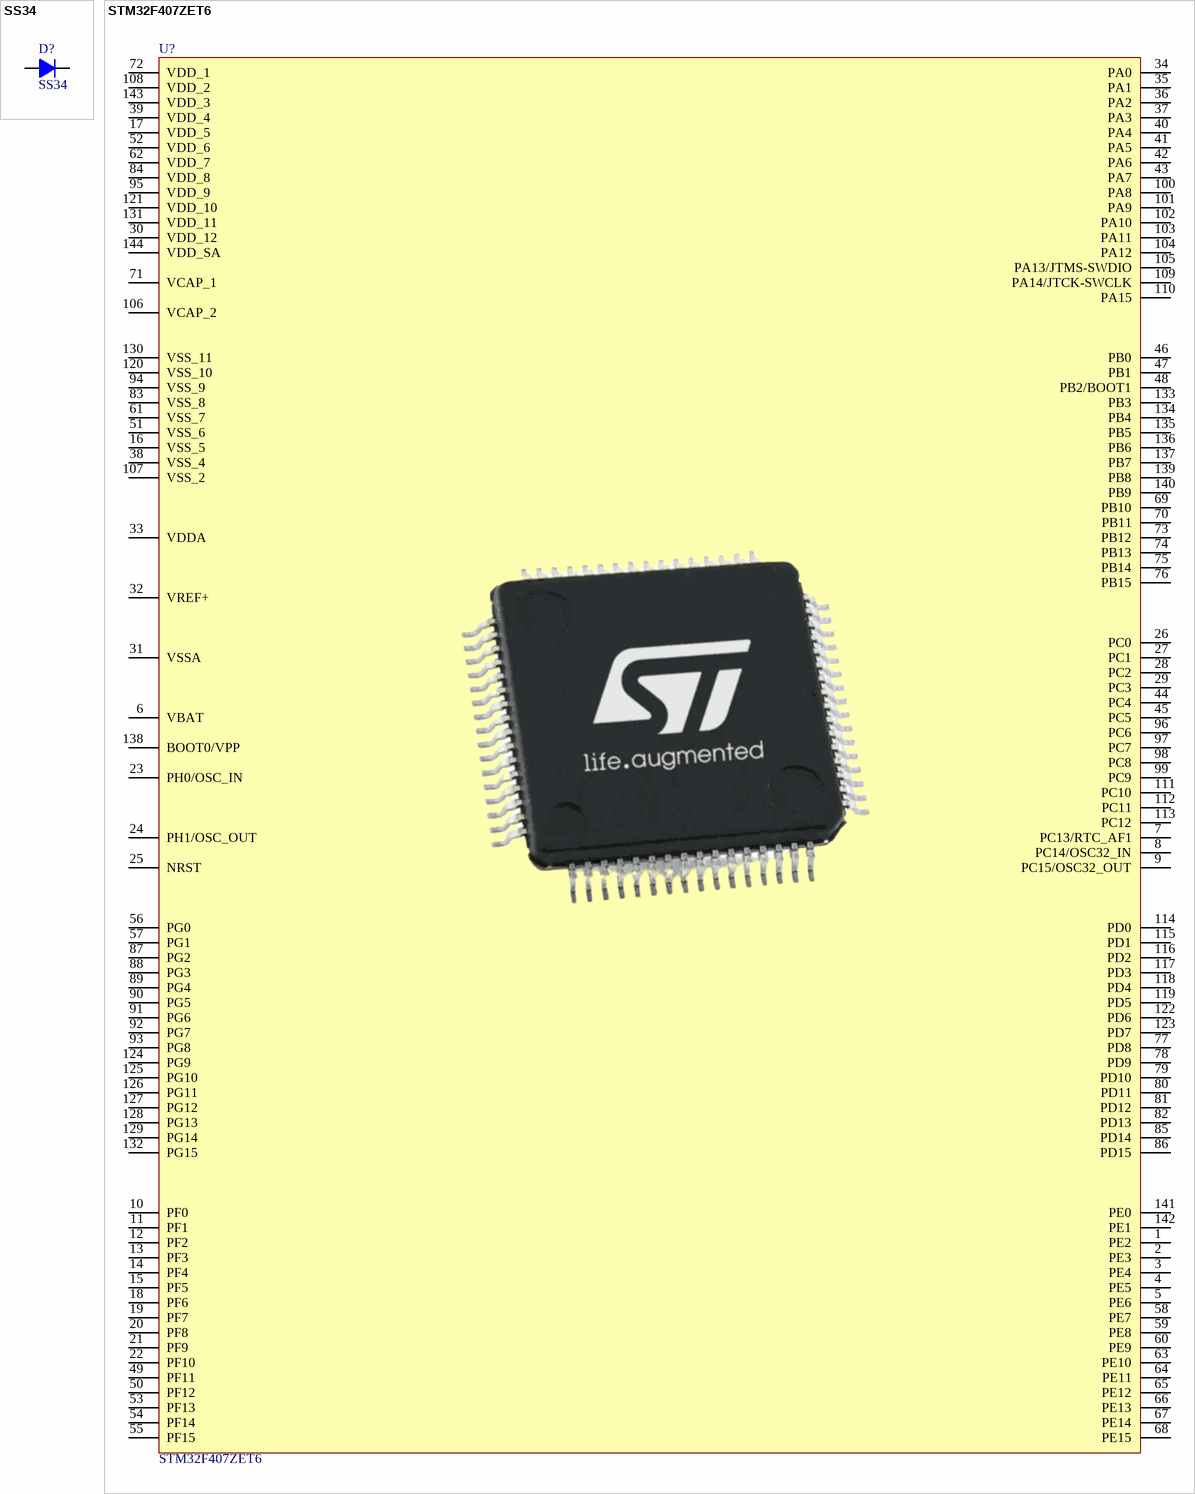
[diagram p2: symbols SS34 to STM32F407ZET6]

## SS34
designator D?
DIODE SCHOTTKY 40V 3A DO214AB; Manufacturer: MDD)icrodiode Electronics); Manufacturer Part Number: SS34; Package: SMA,DO-214AC; LCSC Part Number: C8678; Assembly Type: SMT Assembly
footprint DIO-SMD-106
pins: 1 A, 2 K

## STM32F407ZET6
designator U?
STM32F407ZGT6 ARM® Cortex®-M4 168MHz FLASH 1.8V ~ 3.6V 32-Bit LQFP-144_20x20x05P ST Microelectronics ROHS; LCSC Part Number: C36869; Package: LQFP-144_20.0x20.0x0.5P; Manufacturer: STMicroelectronics; Manufacturer Part Number: STM32F407ZET6; Assembly Type: SMT Assembly
footprint LQFP-144_L20.0-W20.0-P0.50-LS22.0-BL
pins: 1 PE2, 2 PE3, 3 PE4, 4 PE5, 5 PE6, 6 VBAT, 7 PC13/RTC_AF1, 8 PC14/OSC32_IN, 9 PC15/OSC32_OUT, 10 PF0, 11 PF1, 12 PF2, 13 PF3, 14 PF4, 15 PF5, 16 VSS_5, 17 VDD_5, 18 PF6, 19 PF7, 20 PF8, 21 PF9, 22 PF10, 23 PH0/OSC_IN, 24 PH1/OSC_OUT, 25 NRST, 26 PC0, 27 PC1, 28 PC2, 29 PC3, 30 VDD_12, 31 VSSA, 32 VREF+, 33 VDDA, 34 PA0, 35 PA1, 36 PA2, 37 PA3, 38 VSS_4, 39 VDD_4, 40 PA4, 41 PA5, 42 PA6, 43 PA7, 44 PC4, 45 PC5, 46 PB0, 47 PB1, 48 PB2/BOOT1, 49 PF11, 50 PF12, 51 VSS_6, 52 VDD_6, 53 PF13, 54 PF14, 55 PF15, 56 PG0, 57 PG1, 58 PE7, 59 PE8, 60 PE9, 61 VSS_7, 62 VDD_7, 63 PE10, 64 PE11, 65 PE12, 66 PE13, 67 PE14, 68 PE15, 69 PB10, 70 PB11, 71 VCAP_1, 72 VDD_1, 73 PB12, 74 PB13, 75 PB14, 76 PB15, 77 PD8, 78 PD9, 79 PD10, 80 PD11, 81 PD12, 82 PD13, 83 VSS_8, 84 VDD_8, 85 PD14, 86 PD15, 87 PG2, 88 PG3, 89 PG4, 90 PG5, 91 PG6, 92 PG7, 93 PG8, 94 VSS_9, 95 VDD_9, 96 PC6, 97 PC7, 98 PC8, 99 PC9, 100 PA8, 101 PA9, 102 PA10, 103 PA11, 104 PA12, 105 PA13/JTMS-SWDIO, 106 VCAP_2, 107 VSS_2, 108 VDD_2, 109 PA14/JTCK-SWCLK, 110 PA15, 111 PC10, 112 PC11, 113 PC12, 114 PD0, 115 PD1, 116 PD2, 117 PD3, 118 PD4, 119 PD5, 120 VSS_10, 121 VDD_10, 122 PD6, 123 PD7, 124 PG9, 125 PG10, 126 PG11, 127 PG12, 128 PG13, 129 PG14, 130 VSS_11, 131 VDD_11, 132 PG15, 133 PB3, 134 PB4, 135 PB5, 136 PB6, 137 PB7, 138 BOOT0/VPP, 139 PB8, 140 PB9, 141 PE0, 142 PE1, 143 VDD_3, 144 VDD_SA

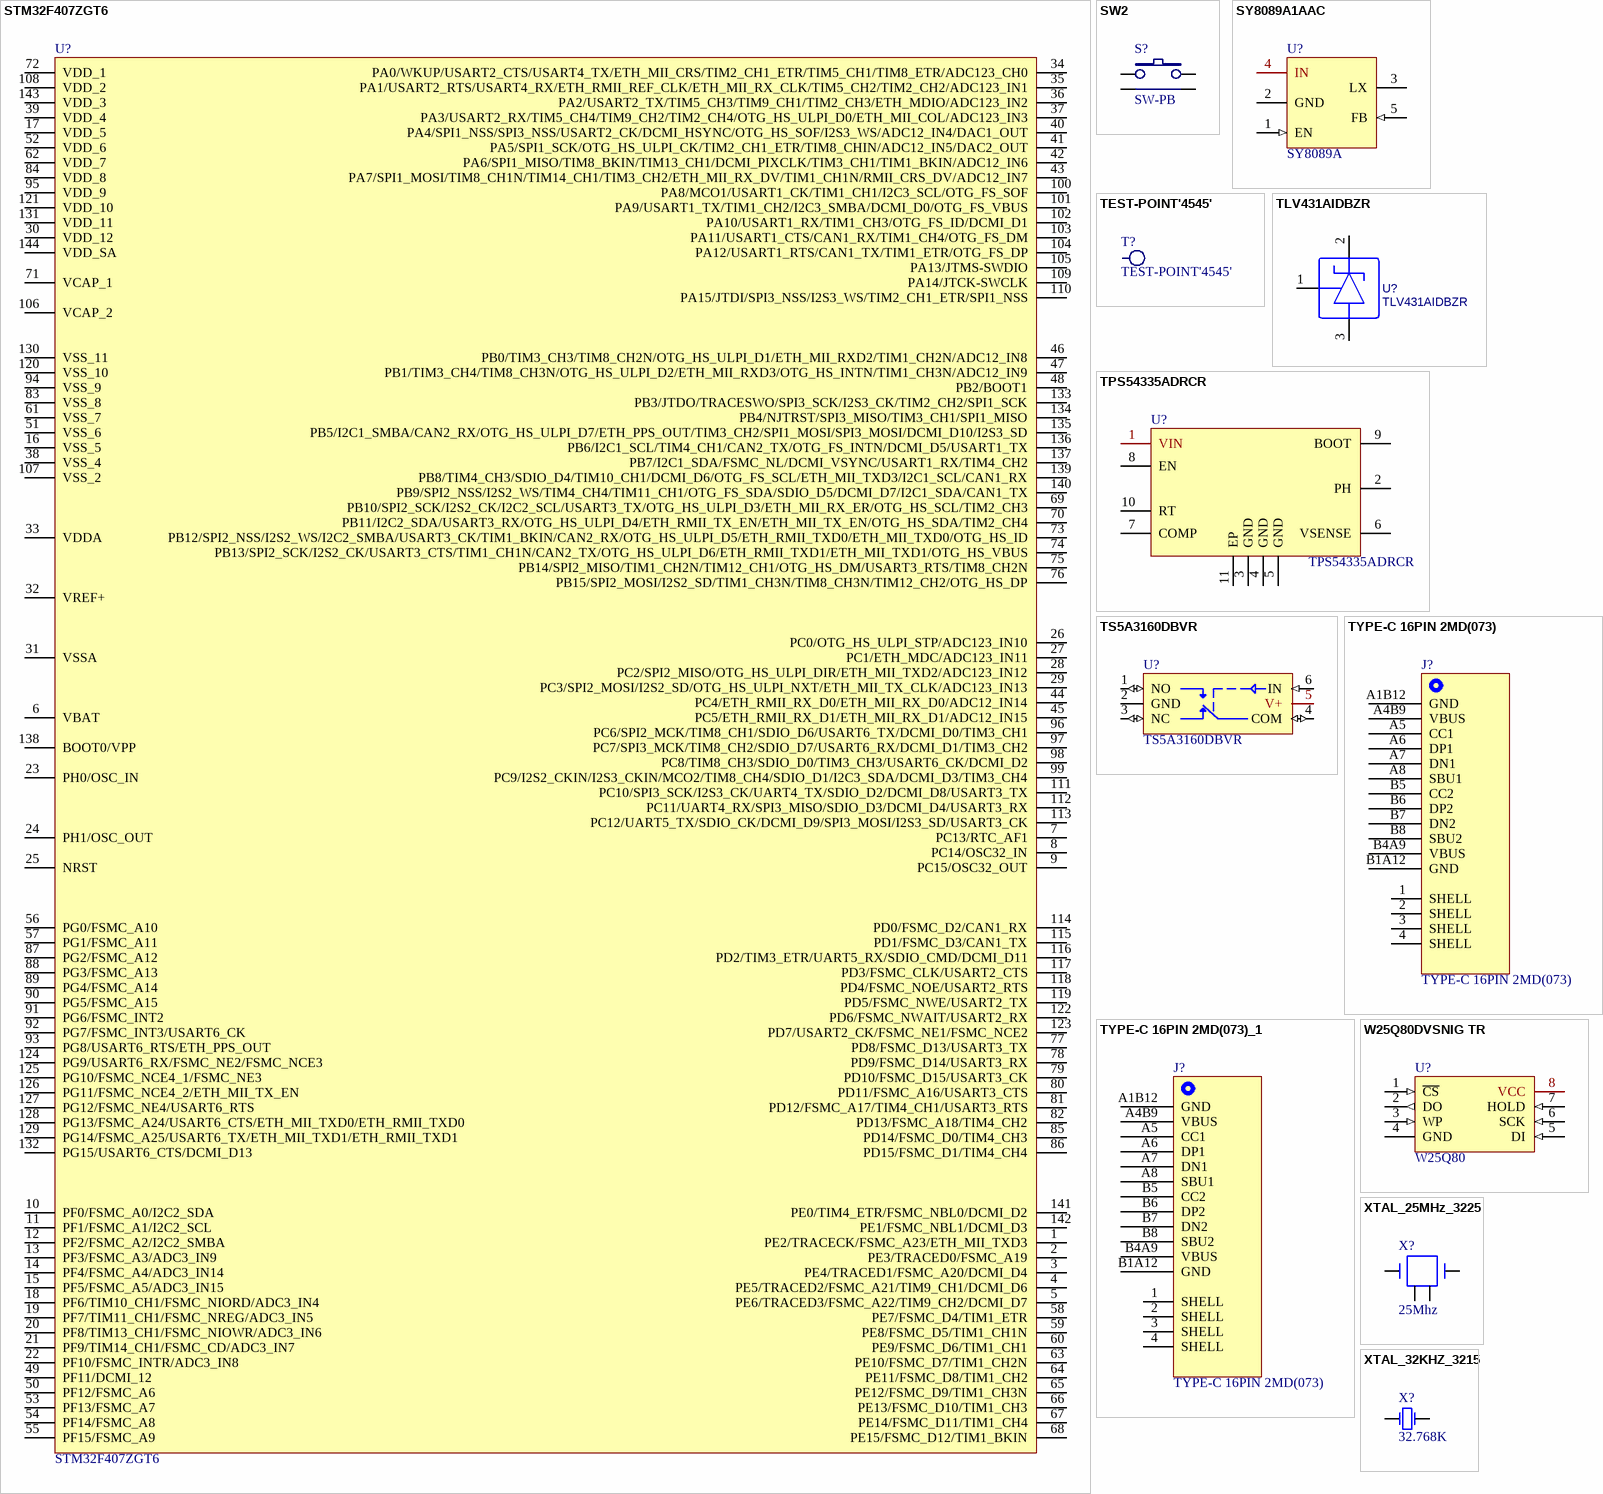
[diagram p3: symbols STM32F407ZGT6 to XTAL_32KHZ_3215]

## STM32F407ZGT6
designator U?
STM32F407ZGT6 ARM® Cortex®-M4 168MHz FLASH 1.8V ~ 3.6V 32-Bit LQFP-144_20x20x05P ST Microelectronics ROHS; LCSC Part Number: C19156; Package: LQFP-144_20.0x20.0x0.5P; Manufacturer: STMicroelectronics; Manufacturer Part Number: STM32F407ZGT6; Assembly Type: SMT Assembly
footprint LQFP-144_L20.0-W20.0-P0.50-LS22.0-BL
pins: 1 PE2/TRACECK/FSMC_A23/ETH_MII_TXD3, 2 PE3/TRACED0/FSMC_A19, 3 PE4/TRACED1/FSMC_A20/DCMI_D4, 4 PE5/TRACED2/FSMC_A21/TIM9_CH1/DCMI_D6, 5 PE6/TRACED3/FSMC_A22/TIM9_CH2/DCMI_D7, 6 VBAT, 7 PC13/RTC_AF1, 8 PC14/OSC32_IN, 9 PC15/OSC32_OUT, 10 PF0/FSMC_A0/I2C2_SDA, 11 PF1/FSMC_A1/I2C2_SCL, 12 PF2/FSMC_A2/I2C2_SMBA, 13 PF3/FSMC_A3/ADC3_IN9, 14 PF4/FSMC_A4/ADC3_IN14, 15 PF5/FSMC_A5/ADC3_IN15, 16 VSS_5, 17 VDD_5, 18 PF6/TIM10_CH1/FSMC_NIORD/ADC3_IN4, 19 PF7/TIM11_CH1/FSMC_NREG/ADC3_IN5, 20 PF8/TIM13_CH1/FSMC_NIOWR/ADC3_IN6, 21 PF9/TIM14_CH1/FSMC_CD/ADC3_IN7, 22 PF10/FSMC_INTR/ADC3_IN8, 23 PH0/OSC_IN, 24 PH1/OSC_OUT, 25 NRST, 26 PC0/OTG_HS_ULPI_STP/ADC123_IN10, 27 PC1/ETH_MDC/ADC123_IN11, 28 PC2/SPI2_MISO/OTG_HS_ULPI_DIR/ETH_MII_TXD2/ADC123_IN12, 29 PC3/SPI2_MOSI/I2S2_SD/OTG_HS_ULPI_NXT/ETH_MII_TX_CLK/ADC123_IN13, 30 VDD_12, 31 VSSA, 32 VREF+, 33 VDDA, 34 PA0/WKUP/USART2_CTS/USART4_TX/ETH_MII_CRS/TIM2_CH1_ETR/TIM5_CH1/TIM8_ETR/ADC123_CH0, 35 PA1/USART2_RTS/USART4_RX/ETH_RMII_REF_CLK/ETH_MII_RX_CLK/TIM5_CH2/TIM2_CH2/ADC123_IN1, 36 PA2/USART2_TX/TIM5_CH3/TIM9_CH1/TIM2_CH3/ETH_MDIO/ADC123_IN2, 37 PA3/USART2_RX/TIM5_CH4/TIM9_CH2/TIM2_CH4/OTG_HS_ULPI_D0/ETH_MII_COL/ADC123_IN3, 38 VSS_4, 39 VDD_4, 40 PA4/SPI1_NSS/SPI3_NSS/USART2_CK/DCMI_HSYNC/OTG_HS_SOF/I2S3_WS/ADC12_IN4/DAC1_OUT, 41 PA5/SPI1_SCK/OTG_HS_ULPI_CK/TIM2_CH1_ETR/TIM8_CHIN/ADC12_IN5/DAC2_OUT, 42 PA6/SPI1_MISO/TIM8_BKIN/TIM13_CH1/DCMI_PIXCLK/TIM3_CH1/TIM1_BKIN/ADC12_IN6, 43 PA7/SPI1_MOSI/TIM8_CH1N/TIM14_CH1/TIM3_CH2/ETH_MII_RX_DV/TIM1_CH1N/RMII_CRS_DV/ADC12_IN7, 44 PC4/ETH_RMII_RX_D0/ETH_MII_RX_D0/ADC12_IN14, 45 PC5/ETH_RMII_RX_D1/ETH_MII_RX_D1/ADC12_IN15, 46 PB0/TIM3_CH3/TIM8_CH2N/OTG_HS_ULPI_D1/ETH_MII_RXD2/TIM1_CH2N/ADC12_IN8, 47 PB1/TIM3_CH4/TIM8_CH3N/OTG_HS_ULPI_D2/ETH_MII_RXD3/OTG_HS_INTN/TIM1_CH3N/ADC12_IN9, 48 PB2/BOOT1, 49 PF11/DCMI_12, 50 PF12/FSMC_A6, 51 VSS_6, 52 VDD_6, 53 PF13/FSMC_A7, 54 PF14/FSMC_A8, 55 PF15/FSMC_A9, 56 PG0/FSMC_A10, 57 PG1/FSMC_A11, 58 PE7/FSMC_D4/TIM1_ETR, 59 PE8/FSMC_D5/TIM1_CH1N, 60 PE9/FSMC_D6/TIM1_CH1, 61 VSS_7, 62 VDD_7, 63 PE10/FSMC_D7/TIM1_CH2N, 64 PE11/FSMC_D8/TIM1_CH2, 65 PE12/FSMC_D9/TIM1_CH3N, 66 PE13/FSMC_D10/TIM1_CH3, 67 PE14/FSMC_D11/TIM1_CH4, 68 PE15/FSMC_D12/TIM1_BKIN, 69 PB10/SPI2_SCK/I2S2_CK/I2C2_SCL/USART3_TX/OTG_HS_ULPI_D3/ETH_MII_RX_ER/OTG_HS_SCL/TIM2_CH3, 70 PB11/I2C2_SDA/USART3_RX/OTG_HS_ULPI_D4/ETH_RMII_TX_EN/ETH_MII_TX_EN/OTG_HS_SDA/TIM2_CH4, 71 VCAP_1, 72 VDD_1, 73 PB12/SPI2_NSS/I2S2_WS/I2C2_SMBA/USART3_CK/TIM1_BKIN/CAN2_RX/OTG_HS_ULPI_D5/ETH_RMII_TXD0/ETH_MII_TXD0/OTG_HS_ID, 74 PB13/SPI2_SCK/I2S2_CK/USART3_CTS/TIM1_CH1N/CAN2_TX/OTG_HS_ULPI_D6/ETH_RMII_TXD1/ETH_MII_TXD1/OTG_HS_VBUS, 75 PB14/SPI2_MISO/TIM1_CH2N/TIM12_CH1/OTG_HS_DM/USART3_RTS/TIM8_CH2N, 76 PB15/SPI2_MOSI/I2S2_SD/TIM1_CH3N/TIM8_CH3N/TIM12_CH2/OTG_HS_DP, 77 PD8/FSMC_D13/USART3_TX, 78 PD9/FSMC_D14/USART3_RX, 79 PD10/FSMC_D15/USART3_CK, 80 PD11/FSMC_A16/USART3_CTS, 81 PD12/FSMC_A17/TIM4_CH1/USART3_RTS, 82 PD13/FSMC_A18/TIM4_CH2, 83 VSS_8, 84 VDD_8, 85 PD14/FSMC_D0/TIM4_CH3, 86 PD15/FSMC_D1/TIM4_CH4, 87 PG2/FSMC_A12, 88 PG3/FSMC_A13, 89 PG4/FSMC_A14, 90 PG5/FSMC_A15, 91 PG6/FSMC_INT2, 92 PG7/FSMC_INT3/USART6_CK, 93 PG8/USART6_RTS/ETH_PPS_OUT, 94 VSS_9, 95 VDD_9, 96 PC6/SPI2_MCK/TIM8_CH1/SDIO_D6/USART6_TX/DCMI_D0/TIM3_CH1, 97 PC7/SPI3_MCK/TIM8_CH2/SDIO_D7/USART6_RX/DCMI_D1/TIM3_CH2, 98 PC8/TIM8_CH3/SDIO_D0/TIM3_CH3/USART6_CK/DCMI_D2, 99 PC9/I2S2_CKIN/I2S3_CKIN/MCO2/TIM8_CH4/SDIO_D1/I2C3_SDA/DCMI_D3/TIM3_CH4, 100 PA8/MCO1/USART1_CK/TIM1_CH1/I2C3_SCL/OTG_FS_SOF, 101 PA9/USART1_TX/TIM1_CH2/I2C3_SMBA/DCMI_D0/OTG_FS_VBUS, 102 PA10/USART1_RX/TIM1_CH3/OTG_FS_ID/DCMI_D1, 103 PA11/USART1_CTS/CAN1_RX/TIM1_CH4/OTG_FS_DM, 104 PA12/USART1_RTS/CAN1_TX/TIM1_ETR/OTG_FS_DP, 105 PA13/JTMS-SWDIO, 106 VCAP_2, 107 VSS_2, 108 VDD_2, 109 PA14/JTCK-SWCLK, 110 PA15/JTDI/SPI3_NSS/I2S3_WS/TIM2_CH1_ETR/SPI1_NSS, 111 PC10/SPI3_SCK/I2S3_CK/UART4_TX/SDIO_D2/DCMI_D8/USART3_TX, 112 PC11/UART4_RX/SPI3_MISO/SDIO_D3/DCMI_D4/USART3_RX, 113 PC12/UART5_TX/SDIO_CK/DCMI_D9/SPI3_MOSI/I2S3_SD/USART3_CK, 114 PD0/FSMC_D2/CAN1_RX, 115 PD1/FSMC_D3/CAN1_TX, 116 PD2/TIM3_ETR/UART5_RX/SDIO_CMD/DCMI_D11, 117 PD3/FSMC_CLK/USART2_CTS, 118 PD4/FSMC_NOE/USART2_RTS, 119 PD5/FSMC_NWE/USART2_TX, 120 VSS_10, 121 VDD_10, 122 PD6/FSMC_NWAIT/USART2_RX, 123 PD7/USART2_CK/FSMC_NE1/FSMC_NCE2, 124 PG9/USART6_RX/FSMC_NE2/FSMC_NCE3, 125 PG10/FSMC_NCE4_1/FSMC_NE3, 126 PG11/FSMC_NCE4_2/ETH_MII_TX_EN, 127 PG12/FSMC_NE4/USART6_RTS, 128 PG13/FSMC_A24/USART6_CTS/ETH_MII_TXD0/ETH_RMII_TXD0, 129 PG14/FSMC_A25/USART6_TX/ETH_MII_TXD1/ETH_RMII_TXD1, 130 VSS_11, 131 VDD_11, 132 PG15/USART6_CTS/DCMI_D13, 133 PB3/JTDO/TRACESWO/SPI3_SCK/I2S3_CK/TIM2_CH2/SPI1_SCK, 134 PB4/NJTRST/SPI3_MISO/TIM3_CH1/SPI1_MISO, 135 PB5/I2C1_SMBA/CAN2_RX/OTG_HS_ULPI_D7/ETH_PPS_OUT/TIM3_CH2/SPI1_MOSI/SPI3_MOSI/DCMI_D10/I2S3_SD, 136 PB6/I2C1_SCL/TIM4_CH1/CAN2_TX/OTG_FS_INTN/DCMI_D5/USART1_TX, 137 PB7/I2C1_SDA/FSMC_NL/DCMI_VSYNC/USART1_RX/TIM4_CH2, 138 BOOT0/VPP, 139 PB8/TIM4_CH3/SDIO_D4/TIM10_CH1/DCMI_D6/OTG_FS_SCL/ETH_MII_TXD3/I2C1_SCL/CAN1_RX, 140 PB9/SPI2_NSS/I2S2_WS/TIM4_CH4/TIM11_CH1/OTG_FS_SDA/SDIO_D5/DCMI_D7/I2C1_SDA/CAN1_TX, 141 PE0/TIM4_ETR/FSMC_NBL0/DCMI_D2, 142 PE1/FSMC_NBL1/DCMI_D3, 143 VDD_3, 144 VDD_SA

## SW2
designator S?, comment SW-PB
SPST 50mA @ 12VDC Side operation Round Button 7.5*7.2mm Tactile Switches RoHS; Manufacturer: Panasonic; Manufacturer Part Number: EVQ-PF306K; LCSC Part Number: N/A; Assembly Type: Hand Soldering; Package: Through holle
footprint SW2-D2 (SW button 2pin, 300x 300 x 250 mil)
pins: 1, 2, G1 3, G2 4

## SY8089A1AAC
designator U?, comment SY8089A
High Efficiency 5.5V, 2A continuous, 3A peak, 1MHz  Synchronous Step Down Regulator; Manufacturer: Silergy Corp; Manufacturer Part Number: SY8089A1AAC; LCSC Part Number: C479074; Package: SOT-23-5; Assembly Type: SMT Assembly
footprint SOT-23-5_L3.0-W1.7-P0.95-LS2.8-BR
pins: 1 EN (in), 2 GND (power), 3 LX (power), 4 IN (power), 5 FB (in)

## TEST-POINT'4545'
designator T?  (no BOM)
Manufacturer: No; Manufacturer Part Number: No; LCSC Part Number: No; Package: No
footprint TP-D45MIL
pins: T

## TLV431AIDBZR
designator U?
TLV431AIDBZR 1.24V~6V ±1% 15mA Adjustable SOT-23  Voltage References ROHS; Manufacturer: Texas Instruments; Manufacturer Part Number: TLV431AIDBZR; LCSC Part Number: C56765; Packge: SOT-23; Assembly Type: SMT Assembly
footprint SOT-23-3_L2.9-W1.3-P1.90-LS2.4-BR
pins: 1 REF, 2 C, 3 A

## TPS54335ADRCR
designator U?
TPS54335A 28V 3A SOP-8_EP_150mil DC-DC Converters RoHS; Manufacturer: Texas Instruments; Manufacturer Part Number: TPS54335ADRCR; ComponentLink1URL: http://www.jameco.com/Jameco/Products/ProdDS/1523997.pdf?src-supplier=Jameco; ComponentLink1Description: http://www.jameco.com/Jameco/Products/ProdDS/1523997.pdf?src-supplier=Jameco; ComponentLink2URL: http://www.ti.com/general/docs/lit/getliterature.tsp?genericPartNumber=TPS5431&&fileType=pdf&src-supplier=Avnet; ComponentLink2Description: http://www.ti.com/general/docs/lit/getliterature.tsp?genericPartNumber=TPS5431&&fileType=pdf&src-supplier=Avnet; ComponentLink3URL: http://focus.ti.com/lit/ds/symlink/tps5430.pdf?src-supplier=Avnet+Europe; ComponentLink3Description: http://focus.ti.com/lit/ds/symlink/tps5430.pdf?src-supplier=Avnet+Europe; ComponentLink4URL: http://www.ti.com/lit/ds/symlink/tps5431.pdf?src-supplier=Digi-Key; ComponentLink4Description: http://www.ti.com/lit/ds/symlink/tps5431.pdf?src-supplier=Digi-Key; ComponentLink5URL: https://www.verical.com/server-webapp/html/getDatasheet?partID=214658&src-supplier=Verical; ComponentLink5Description: https://www.verical.com/server-webapp/html/getDatasheet?partID=214658&src-supplier=Verical; ComponentLink6URL: http://www.produktinfo.conrad.com/datenblaetter/1000000-1099999/001014839-da-01-en-IC_REG_BUCK_ADJ_3_TPS5430DDAR_SOIC_8_TID.pdf?src-supplier=Conrad; ComponentLink6Description: http://www.produktinfo.conrad.com/datenblaetter/1000000-1099999/001014839-da-01-en-IC_REG_BUCK_ADJ_3_TPS5430DDAR_SOIC_8_TID.pdf?src-supplier=Conrad; Package: VSON-10; LCSC Part Number: C473400; Assembly Type: SMT Assembly
footprint VSON-10_L3.0-W3.0-P0.50-TL-EP
pins: 1 VIN (power), 2 PH, 3 GND (power), 4 GND (power), 5 GND (power), 6 VSENSE, 7 COMP, 8 EN, 9 BOOT, 10 RT, 11 EP

## TS5A3160DBVR
designator U?
SPDT 2:1 0.9Ω 5V SOT-23-6 ANALOG SWITCHES ROHS; Manufacturer: Texas Instruments; Manufacturer Part Number: TS5A3160DBVR; LCSC Part Number: C185770; Package: SOT-23-6L; Assembly Type: SMT Assembly
footprint SOT-23-6_L2.9-W1.6-P0.95-LS2.8-BR
pins: 1 NO (io), 2 GND (power), 3 NC (io), 4 COM (io), 5 V+ (power), 6 IN (in)

## TYPE-C 16PIN 2MD(073)
designator J?
5A 1 Surface Mount 16 Female -25℃~+85℃ Type-C SMD USB Connectors ROHS; Manufacturer: SHOU HAN; Manufacturer Part Number: TYPE-C16PIN; Package: SMD; Assembly Type: SMT Assembly; LCSC Part Number: C2765186
footprint USB-C-SMD_TYPE-C16PIN
pins: 1 SHELL, 2 SHELL, 3 SHELL, 4 SHELL, A1B12 GND, A4B9 VBUS, A5 CC1, A6 DP1, A7 DN1, A8 SBU1, B1A12 GND, B4A9 VBUS, B5 CC2, B6 DP2, B7 DN2, B8 SBU2

## TYPE-C 16PIN 2MD(073)_1
designator J?, comment TYPE-C 16PIN 2MD(073)
5A 1 Surface Mount 16 Female -25℃~+85℃ Type-C SMD USB Connectors ROHS; Manufacturer: SHOU HAN; Manufacturer Part Number: TYPE-C16PIN; Package: SMD; Assembly Type: SMT Assembly; LCSC Part Number: C2765186
footprint USB-C-SMD_TYPE-C16PIN
pins: 1 SHELL, 2 SHELL, 3 SHELL, 4 SHELL, A1B12 GND, A4B9 VBUS, A5 CC1, A6 DP1, A7 DN1, A8 SBU1, B1A12 GND, B4A9 VBUS, B5 CC2, B6 DP2, B7 DN2, B8 SBU2

## W25Q80DVSNIG TR
designator U?, comment W25Q80
FLASH FLASH 8MB (1M X 8) SPI - DUAL/QUAD I/O SOIC-8_208MIL ROHS; Manufacturer: Winbond; Manufacturer Part Number: W25Q80DVSNIG TR; LCSC Part Number: C401655; Package: SOIC-8_5.3x5.3x1.27P; Assembly Type: SMT Assembly
footprint SOIC-8_3.9x4.9x1.27P
pins: 1 ~{CS} (in), 2 DO (out), 3 WP (in), 4 GND (power), 5 DI (in), 6 SCK (in), 7 HOLD (in), 8 VCC (power)

## XTAL_25MHz_3225
designator X?, comment 25Mhz
25MHz ±10ppm 12pF 40Ω SMD-3225_4P SMD Crystal Resonators RoHS; Manufacturer: Yangxing Tech; Manufacturer Part Number: X322525MOB4SI; LCSC Part Number: C9006; Package: SMD-3225_4P; Assembly Type: SMT Assembly
footprint SMD-3225_4P
pins: 1 OSC1, 2 GND, 3 OSC2, 4 GND

## XTAL_32KHZ_3215
designator X?, comment 32.768K
32.768K SMD CRYSTAL RESONATORS 32.768KHZ ±20PPM SMD-3215_2P ROHS; Manufacturer: Seiko Epson; Manufacturer Part Number: Q13FC1350000400; Package: SMD-3215_2P; LCSC Part Number: C32346; Assembly Type: SMT Assembly
footprint XT32-1 (Cryxtal 32.768kHz)
footprint XTAL1140X470X160N (HC/49US Crystal;11.40mm L X 4.70mm W X 1.60mm H)
footprint SMD-3215_2P (SMD-3215_2P Xtal 32.768K)
pins: 1 OSC1, 2 OSC2